# Altium footprint library LGA-16(3.0X4.5).PcbLib: 1 footprints
Each footprint in its own frame and in the unit in brackets; x right, y up, seen from the top. Pads: shape width x height; smd on the part's side, far side on the other; paste and mask are expansions set on the pad; w line width, h text height; cw(c..) or ccw(c..) is an arc to the next point about the centre after c.
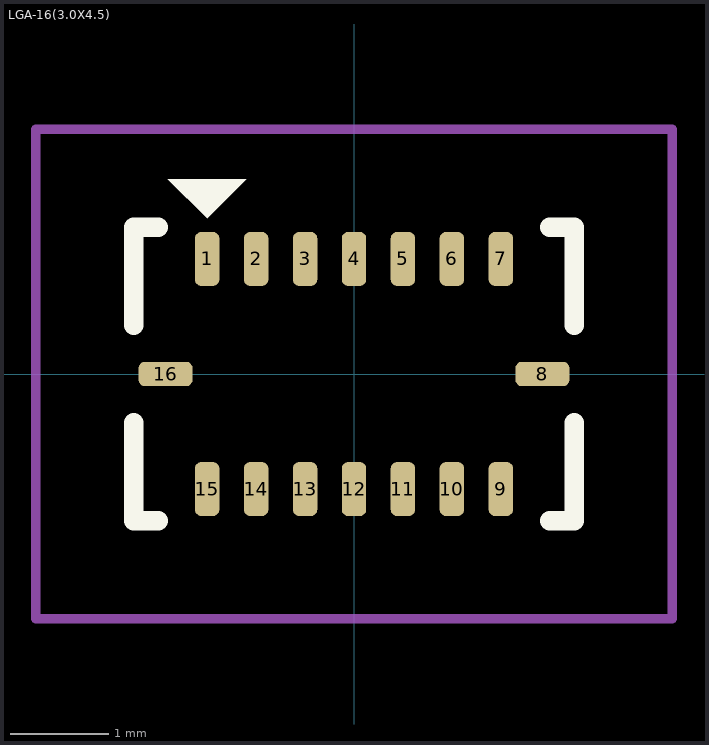
[diagram p0: the footprint, top view; thin cyan lines are the x and y axes]

## LGA-16(3.0X4.5) [mm]
pads (16):
  rrect50% 0.25x0.55 smd: 1(-1.5,1.175) 2(-1,1.175) 3(-0.5,1.175) 4(0,1.175) 5(0.5,1.175) 6(1,1.175) 7(1.5,1.175) 9(1.5,-1.175) 10(1,-1.175) 11(0.5,-1.175) 12(0,-1.175) 13(-0.5,-1.175) 14(-1,-1.175) 15(-1.5,-1.175)
  rrect50% 0.55x0.25 smd: 8(1.925,0) 16(-1.925,0)
Top Overlay:
  region: -1.9,1.99 -1.1,1.99 -1.5,1.59
  lines w0.2: -2.25,-0.5 -2.25,-1.5 -2,-1.5 ; -2.25,0.5 -2.25,1.5 -2,1.5 ; 2,-1.5 2.25,-1.5 2.25,-0.5 ; 2,1.5 2.25,1.5 2.25,0.5
Top Courtyard:
  lines w0.1: -3.25,-2.5 -2.25,-2.5 3.25,-2.5 3.25,2.5 -3.25,2.5 -3.25,-2.5
3D body "BMI088--3DModel-STEP-56544.STEP": height 1, standoff 0, extent -2.25,-1.5 2.25,1.5